# EAGLE library part ESP32-C3-MINI-1-N4 (library ESP32-C3-MINI-1-N4)
ESP32-C3-MINI-1-N4 4MB ESP32 based low power small package WiFi/BLE ModuleCheck availability in Punoscho.in <https://punoscho.in/product/esp32-c3-mini-1-n4-ble-wifi-module/>
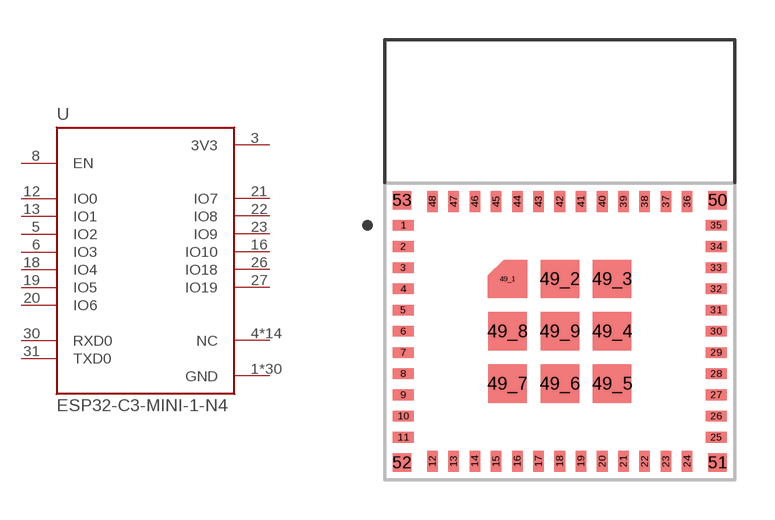
[diagram p0: symbol with the pads of XCVR_ESP32-C3-MINI-1-N4; footprint XCVR_ESP32-C3-MINI-1-N4]

Designator prefix U

## ESP32-C3-MINI-1-N4 (MFR: Espressif Systems; MFR-PN: ESP32-C3-MINI-1-N4; PACKAGE: SMD-53 Espressif Systems; SUPPLIER: Punoscho; SUPPLIER-PN: PU-0115)  [XCVR_ESP32-C3-MINI-1-N4]
1  GND  pwr
2  GND  pwr
3  3V3  pwr
4  NC  nc
5  IO2
6  IO3
7  NC  nc
8  EN  in
9  NC  nc
10  NC  nc
11  GND  pwr
12  IO0
13  IO1
14  GND  pwr
15  NC  nc
16  IO10
17  NC  nc
18  IO4
19  IO5
20  IO6
21  IO7
22  IO8
23  IO9
24  NC  nc
25  NC  nc
26  IO18
27  IO19
28  NC  nc
29  NC  nc
30  RXD0
31  TXD0
32  NC  nc
33  NC  nc
34  NC  nc
35  NC  nc
36  GND  pwr
37  GND  pwr
38  GND  pwr
39  GND  pwr
40  GND  pwr
41  GND  pwr
42  GND  pwr
43  GND  pwr
44  GND  pwr
45  GND  pwr
46  GND  pwr
47  GND  pwr
48  GND  pwr
49_1  GND  pwr
49_2  GND  pwr
49_3  GND  pwr
49_4  GND  pwr
49_5  GND  pwr
49_6  GND  pwr
49_7  GND  pwr
49_8  GND  pwr
49_9  GND  pwr
50  GND  pwr
51  GND  pwr
52  GND  pwr
53  GND  pwr

## Footprint XCVR_ESP32-C3-MINI-1-N4 (pad centres in mm)
smd 0.8 x 0.4: 1 -5.9,1.3; 2 -5.9,0.5; 3 -5.9,-0.3; 4 -5.9,-1.1; 5 -5.9,-1.9; 6 -5.9,-2.7; 7 -5.9,-3.5; 8 -5.9,-4.3; 9 -5.9,-5.1; 10 -5.9,-5.9; 11 -5.9,-6.7; 25 5.9,-6.7; 26 5.9,-5.9; 27 5.9,-5.1; 28 5.9,-4.3; 29 5.9,-3.5; 30 5.9,-2.7; 31 5.9,-1.9; 32 5.9,-1.1; 33 5.9,-0.3; 34 5.9,0.5; 35 5.9,1.3
smd 0.4 x 0.8: 12 -4.8,-7.6; 13 -4,-7.6; 14 -3.2,-7.6; 15 -2.4,-7.6; 16 -1.6,-7.6; 17 -0.8,-7.6; 18 0,-7.6; 19 0.8,-7.6; 20 1.6,-7.6; 21 2.4,-7.6; 22 3.2,-7.6; 23 4,-7.6; 24 4.8,-7.6; 36 4.8,2.2; 37 4,2.2; 38 3.2,2.2; 39 2.4,2.2; 40 1.6,2.2; 41 0.8,2.2; 42 0,2.2; 43 -0.8,2.2; 44 -1.6,2.2; 45 -2.4,2.2; 46 -3.2,2.2; 47 -4,2.2; 48 -4.8,2.2
smd 0.6 x 0.6: 49_1 -1.975,-0.725
smd 1.45 x 1.45: 49_2 0,-0.725; 49_3 1.975,-0.725; 49_4 1.975,-2.7; 49_5 1.975,-4.675; 49_6 0,-4.675; 49_7 -1.975,-4.675; 49_8 -1.975,-2.7; 49_9 0,-2.7
smd 0.7 x 0.7: 50 5.95,2.25; 51 5.95,-7.65; 52 -5.95,-7.65; 53 -5.95,2.25